# EAGLE library part XC9572-PC84 (library fmc_zed)
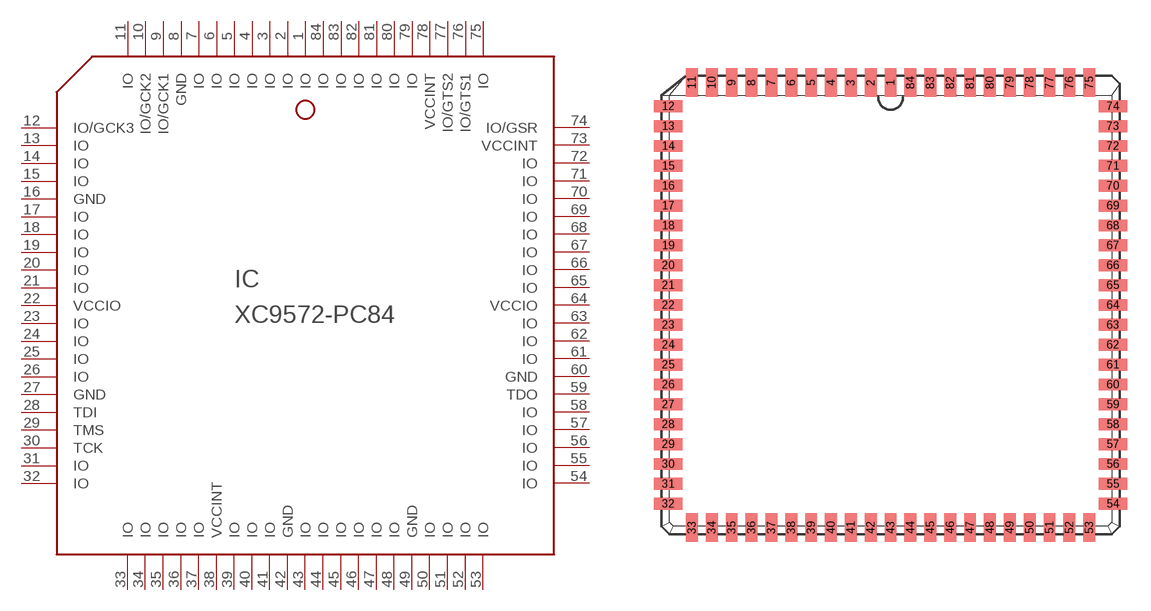
[diagram p0: symbol with the pads of PLCC84; footprint PLCC84]

Designator prefix IC

## XC9572-PC84  [PLCC84]
1  IO
2  IO
3  IO
4  IO
5  IO
6  IO
7  IO
8  GND
9  IO/GCK1
10  IO/GCK2
11  IO
12  IO/GCK3
13  IO
14  IO
15  IO
16  GND
17  IO
18  IO
19  IO
20  IO
21  IO
22  VCCIO
23  IO
24  IO
25  IO
26  IO
27  GND
28  TDI  in
29  TMS  in
30  TCK  in
31  IO
32  IO
33  IO
34  IO
35  IO
36  IO
37  IO
38  VCCINT
39  IO
40  IO
41  IO
42  GND
43  IO
44  IO
45  IO
46  IO
47  IO
48  IO
49  GND
50  IO
51  IO
52  IO
53  IO
54  IO
55  IO
56  IO
57  IO
58  IO
59  TDO  out
60  GND
61  IO
62  IO
63  IO
64  VCCIO
65  IO
66  IO
67  IO
68  IO
69  IO
70  IO
71  IO
72  IO
73  VCCINT
74  IO/GSR
75  IO
76  IO/GTS1
77  IO/GTS2
78  VCCINT
79  IO
80  IO
81  IO
82  IO
83  IO
84  IO

## Footprint PLCC84 (pad centres in mm)
PLASTIC LEADED CHIP CARRIER square
smd 0.76 x 1.8: 1 0,14.21; 2 -1.27,14.21; 3 -2.54,14.21; 4 -3.81,14.21; 5 -5.08,14.21; 6 -6.35,14.21; 7 -7.62,14.21; 8 -8.89,14.21; 9 -10.16,14.21; 10 -11.43,14.21; 11 -12.7,14.21; 33 -12.7,-14.21; 34 -11.43,-14.21; 35 -10.16,-14.21; 36 -8.89,-14.21; 37 -7.62,-14.21; 38 -6.35,-14.21; 39 -5.08,-14.21; 40 -3.81,-14.21; 41 -2.54,-14.21; 42 -1.27,-14.21; 43 0,-14.21; 44 1.27,-14.21; 45 2.54,-14.21; 46 3.81,-14.21; 47 5.08,-14.21; 48 6.35,-14.21; 49 7.62,-14.21; 50 8.89,-14.21; 51 10.16,-14.21; 52 11.43,-14.21; 53 12.7,-14.21; 75 12.7,14.21; 76 11.43,14.21; 77 10.16,14.21; 78 8.89,14.21; 79 7.62,14.21; 80 6.35,14.21; 81 5.08,14.21; 82 3.81,14.21; 83 2.54,14.21; 84 1.27,14.21
smd 1.8 x 0.76: 12 -14.21,12.7; 13 -14.21,11.43; 14 -14.21,10.16; 15 -14.21,8.89; 16 -14.21,7.62; 17 -14.21,6.35; 18 -14.21,5.08; 19 -14.21,3.81; 20 -14.21,2.54; 21 -14.21,1.27; 22 -14.21,0; 23 -14.21,-1.27; 24 -14.21,-2.54; 25 -14.21,-3.81; 26 -14.21,-5.08; 27 -14.21,-6.35; 28 -14.21,-7.62; 29 -14.21,-8.89; 30 -14.21,-10.16; 31 -14.21,-11.43; 32 -14.21,-12.7; 54 14.21,-12.7; 55 14.21,-11.43; 56 14.21,-10.16; 57 14.21,-8.89; 58 14.21,-7.62; 59 14.21,-6.35; 60 14.21,-5.08; 61 14.21,-3.81; 62 14.21,-2.54; 63 14.21,-1.27; 64 14.21,0; 65 14.21,1.27; 66 14.21,2.54; 67 14.21,3.81; 68 14.21,5.08; 69 14.21,6.35; 70 14.21,7.62; 71 14.21,8.89; 72 14.21,10.16; 73 14.21,11.43; 74 14.21,12.7